# Altium footprint library RC500Module.PcbLib: 1 footprints
Each footprint in its own frame and in the unit in brackets; x right, y up, seen from the top. Pads: shape width x height; smd on the part's side, far side on the other; paste and mask are expansions set on the pad; w line width, h text height; cw(c..) or ccw(c..) is an arc to the next point about the centre after c.
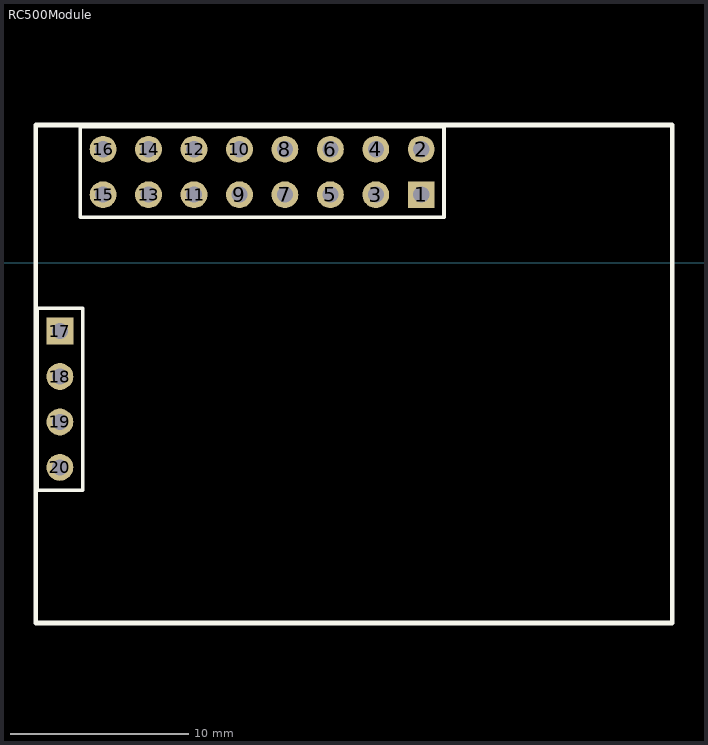
[diagram p0: the footprint, top view; thin cyan lines are the x and y axes]

## RC500Module [mm]
pads (20):
  rect 1.5x1.5 hole 0.9: 1(34.163,3.81) 17(13.97,-3.81)
  round 1.5 hole 0.9: 2(34.163,6.35) 3(31.623,3.81) 4(31.623,6.35) 5(29.083,3.81) 6(29.083,6.35) 7(26.543,3.81) 8(26.543,6.35) 9(24.003,3.81) 10(24.003,6.35) 11(21.463,3.81) 12(21.463,6.35) 13(18.923,3.81) 14(18.923,6.35) 15(16.383,3.81) 16(16.383,6.35) 18(13.97,-6.35) 19(13.97,-8.89) 20(13.97,-11.43)
Top Overlay:
  lines w0.2: 12.7,-12.7 12.7,-2.54 15.24,-2.54 15.24,-12.7 12.7,-12.7 ; 15.113,2.54 15.113,7.62 35.433,7.62 35.433,2.54 15.113,2.54
  lines w0.27: 12.624,-20.117 12.624,7.696 48.184,7.696 48.184,-20.117 12.624,-20.117